# Altium footprint library PCB_Lib.PcbLib: 301 footprints (part 5 of 19)
Each footprint in its own frame and in the unit in brackets; x right, y up, seen from the top. Pads: shape width x height; smd on the part's side, far side on the other; paste and mask are expansions set on the pad; w line width, h text height; cw(c..) or ccw(c..) is an arc to the next point about the centre after c.
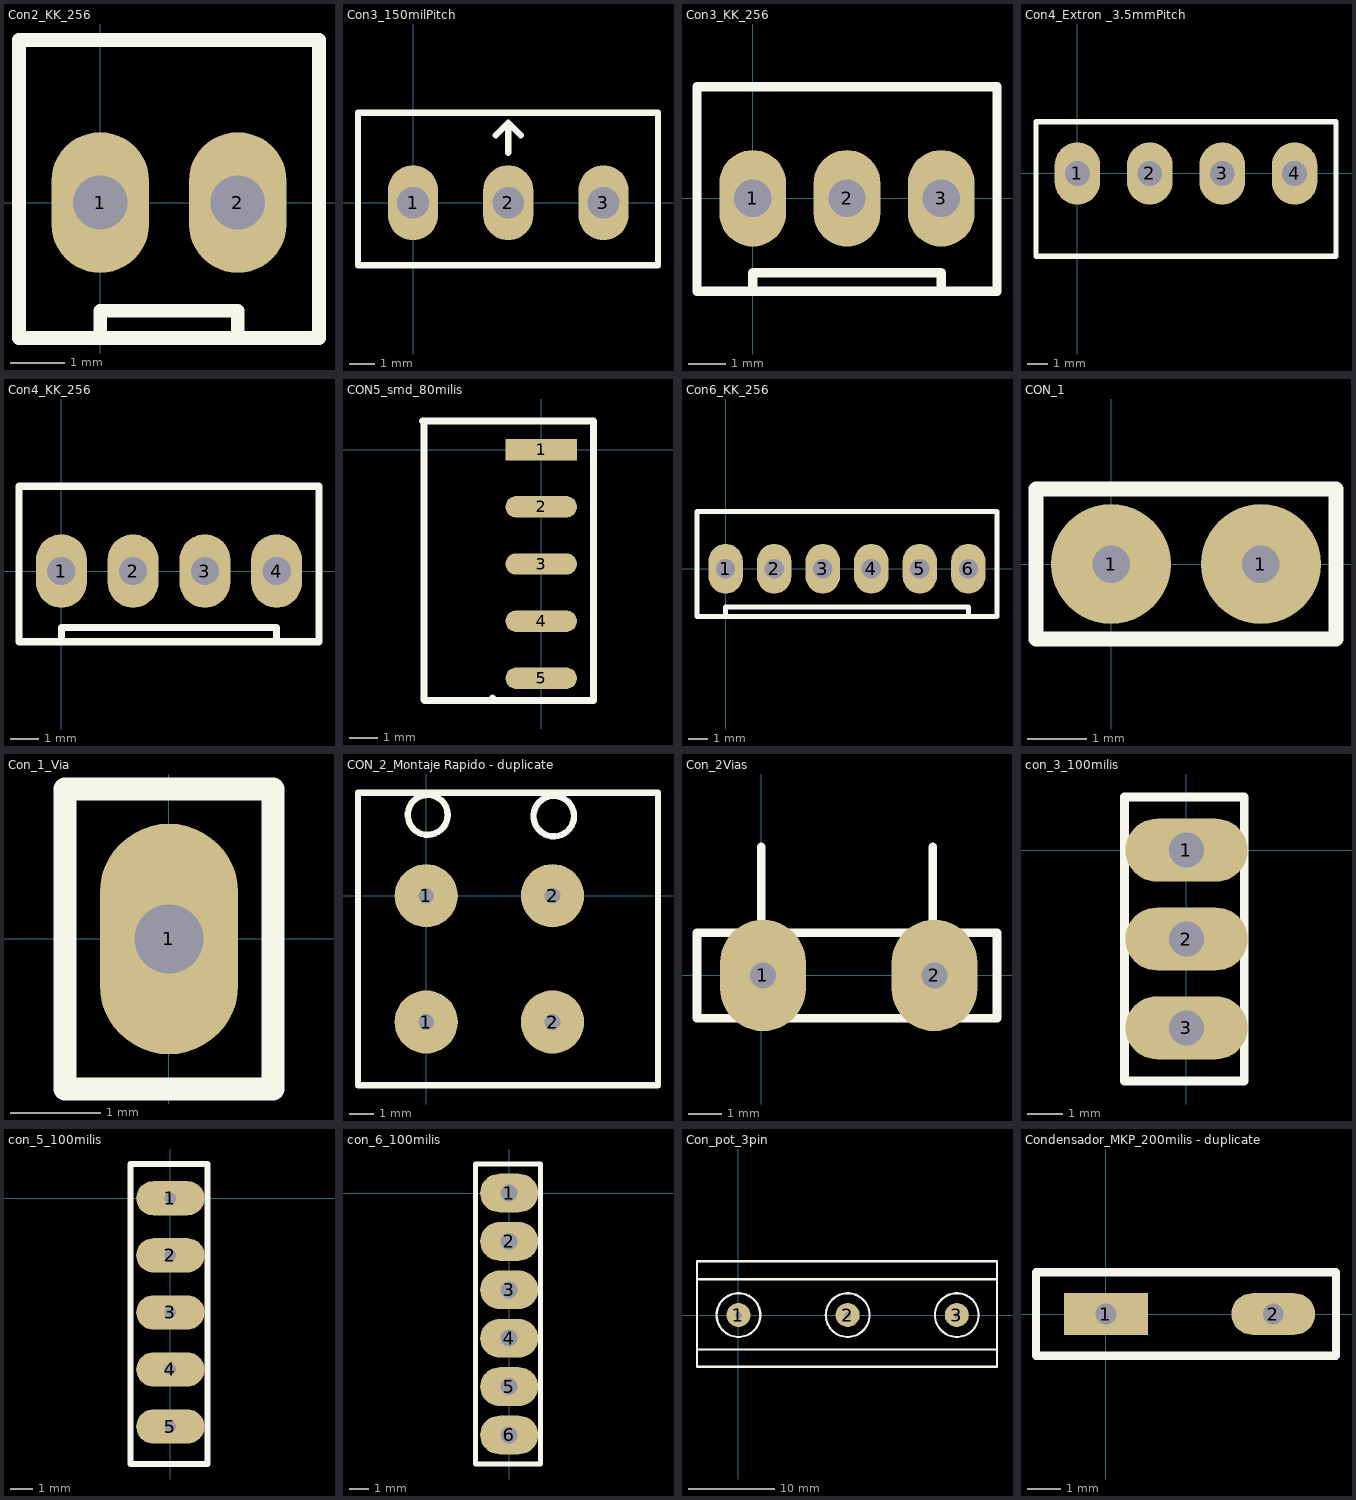
[diagram p4: the footprints below, top view; thin cyan lines are the x and y axes]

## Con2_KK_256 [mm]
height 2.54
pads (2):
  oval 1.8x2.6 hole 1: 1(0,0) 2(2.54,0)
Top Overlay:
  lines w0.254: 0,-2.5 0,-2 2.54,-2 2.54,-2.5 ; -1.5,-2.5 4.04,-2.5 4.04,3 -1.5,3 -1.5,-2.5

## Con3_150milPitch [mm]
height 2.54
pads (3):
  oval 2x3 hole 1.27: 1(0,0) 2(3.81,0) 3(7.62,0)
Top Overlay:
  lines w0.254: 3.31,2.7 3.81,3.2 ; 3.81,2 3.81,3.2 ; 4.31,2.7 3.81,3.2 ; -2.2,-2.5 9.8,-2.5 9.8,3.6 -2.2,3.6 -2.2,-2.5

## Con3_KK_256 [mm]
height 2.54
pads (3):
  oval 1.8x2.6 hole 1: 1(0,0) 2(2.54,0) 3(5.08,0)
Top Overlay:
  lines w0.254: 0,-2.5 0,-2 5.08,-2 5.08,-2.5 ; -1.5,-2.5 6.58,-2.5 6.58,3 -1.5,3 -1.5,-2.5

## Con4_Extron _3.5mmPitch [mm]
height 2.54
pads (4):
  oval 2.2x3 hole 1.2: 1(0,0) 2(3.5,0) 3(7,0) 4(10.5,0)
Top Overlay:
  lines w0.254: -2,-4 -2,2.5 12.5,2.5 12.5,-4 -2,-4

## Con4_KK_256 [mm]
height 2.54
pads (4):
  oval 1.8x2.6 hole 1: 1(0,0) 2(2.54,0) 3(5.08,0) 4(7.62,0)
Top Overlay:
  lines w0.254: 0,-2.5 0,-2 7.62,-2 7.62,-2.5 ; -1.5,-2.5 -1.5,3 9.12,3 9.12,-2.5 -1.5,-2.5

## CON5_smd_80milis [mil]
pads (5):
  rect 100x30 smd: 1(0,0)
  oval 100x30 smd: 2(0,-80) 3(0,-160) 4(0,-240) 5(0,-320)
Top Overlay:
  lines w10: -68,-348 -65,-351 ; -68,40 73,40 ; -65,-351 73,-351 73,40 ; -65,-351 -163,-351 -164,-350 -164,38 -166,40 73,40

## Con6_KK_256 [mm]
height 2.54
pads (6):
  oval 1.8x2.6 hole 1: 1(0,0) 2(2.54,0) 3(5.08,0) 4(7.62,0) 5(10.16,0) 6(12.7,0)
Top Overlay:
  lines w0.254: 0,-2.5 0,-2 12.7,-2 12.7,-2.5 ; -1.5,-2.5 14.2,-2.5 14.2,3 -1.5,3 -1.5,-2.5

## CON_1 [mil]
pads (2):
  round 80 hole 25: 1(0,0) 1(100,0)
Top Overlay:
  lines w10: -50,-50 150,-50 150,50 -50,50 -50,-50

## Con_1_Via [mil]
height 100
pads (1):
  oval 60x100 hole 30: 1(0,0)
Top Overlay:
  lines w10: -45,-65 45,-65 45,65 -45,65 -45,-65

## CON_2_Montaje Rapido - duplicate [mil]
pads (4):
  round 100 hole 25: 1(0,-200) 1(0,0) 2(200,-200) 2(200,0)
Top Overlay:
  circle w10: c2.42,128 r31.58
  circle w10: c201.94,126 r32.06
  lines w10: -92,163 367,163 367,-23 ; 100,163 -108,163 -108,93 -108,-300 367,-300 367,100

## Con_2Vias [mil] "Conector 2 vias"
pads (2):
  oval 100x130 hole 30: 1(1.97,0) 2(201.97,0)
Top Overlay:
  lines w10: 0,50 0,150 ; 200,50 200,150 ; -75,-50 275,-50 275,50 -75,50 -75,-50

## con_3_100milis [mm]
pads (3):
  oval 3.5x1.8 hole 1: 1(0,0) 2(0,-2.54) 3(0,-5.08)
Top Overlay:
  lines w0.254: -1.778,-6.604 1.651,-6.604 1.651,1.524 1.143,1.524 -1.778,1.524 -1.778,-6.604

## con_5_100milis [mil]
pads (5):
  oval 120x60 hole 20: 1(0,0) 2(0,-100) 3(0,-200) 4(0,-300) 5(0,-400)
Top Overlay:
  lines w10: -70,-465.55 -70,60 45,60 65,60 65,-465.55 -70,-465.55

## con_6_100milis [mil]
pads (6):
  oval 120x80 hole 35: 1(0,0) 2(0,-100) 3(0,-200) 4(0,-300) 5(0,-400) 6(0,-500)
Top Overlay:
  lines w10: -70,-560 -70,60 45,60 65,60 65,-560 -70,-560

## Con_pot_3pin [mil]
pads (3):
  round 110 hole 30: 1(0,0) 2(500,0) 3(1000,0)
Top Overlay:
  circle w10: c0,0 r100
  circle w10: c500,0 r100
  circle w10: c1000,0 r100
  lines w10: -190,-157 1184,-157 ; -190,164 1184,164 ; -190,-237 -190,247 1184,247 1184,-237 -190,-237

## Condensador_MKP_200milis - duplicate [mil] "10nF 1600v"
height 590.55
pads (2):
  rect 100x50 hole 25: 1(0,0)
  oval 100x50 hole 25: 2(200,0)
Top Overlay:
  lines w10: -83.66,-50 -83.66,50 0,50 75.1,50 116.24,50 275,50 275,-50 -83.66,-50